# EAGLE library part EL7222CN (library Intersil_By_element14_Batch_1)
MOSFET Driver
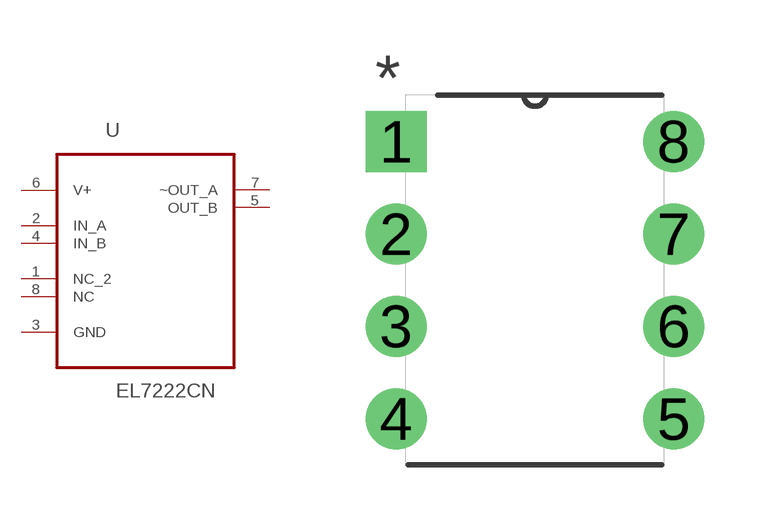
[diagram p73: symbol with the pads of DIP254P762X533-8; footprint DIP254P762X533-8]

Designator prefix U

## EL7222CN (MPN: EL7222CN; OC_FARNELL: 6471936; OC_NEWARK: 31H9458; PACKAGE: PDIP; SUPPLIER: INTERSIL)  [DIP254P762X533-8]
1  NC_2  nc
2  IN_A  in
3  GND  pas
4  IN_B  in
5  OUT_B  out
6  V+  pwr
7  ~OUT_A  out
8  NC  nc

## Footprint DIP254P762X533-8 (pad centres in mm)
drill 1.118 square: 1 -7.62,7.62
drill 1.118: 2 -7.62,5.08; 3 -7.62,2.54; 4 -7.62,0; 5 0,0; 6 0,2.54; 7 0,5.08; 8 0,7.62